# Altium integrated library jst.IntLib: 38 symbols
Pins are listed as number, name and electrical type; pins without a type are passive.

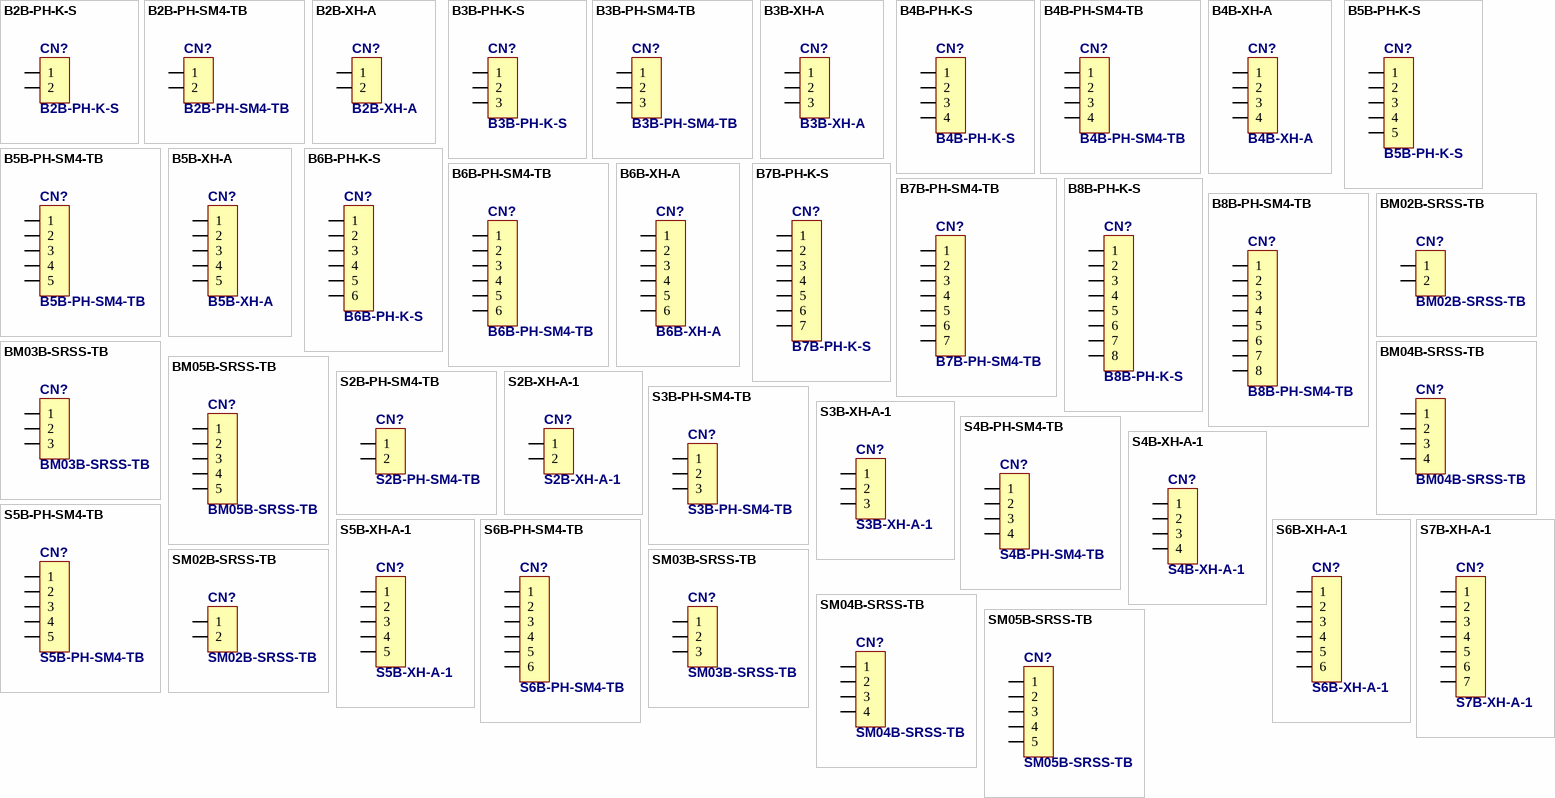
[diagram p0: symbols B2B-PH-K-S to SM05B-SRSS-TB]

## B2B-PH-K-S
designator CN?
footprint B2B-PH-K-S
pins: 1, 2

## B2B-PH-SM4-TB
designator CN?
footprint B2B-PH-SM4-TB
pins: 1, 2

## B2B-XH-A
designator CN?
Top Entry, 2.5mm, 3A, 250V AC/DC, Disconnectable Crimp Style Connectors
footprint B2B-XH-A
pins: 1, 2

## B3B-PH-K-S
designator CN?
footprint B3B-PH-K-S
pins: 1, 2, 3

## B3B-PH-SM4-TB
designator CN?
footprint B3B-PH-SM4-TB
pins: 1, 2, 3

## B3B-XH-A
designator CN?
Top Entry, 2.5mm, 3A, 250V AC/DC, Disconnectable Crimp Style Connectors
footprint B3B-XH-A
pins: 1, 2, 3

## B4B-PH-K-S
designator CN?
footprint B4B-PH-K-S
pins: 1, 2, 3, 4

## B4B-PH-SM4-TB
designator CN?
footprint B4B-PH-SM4-TB
pins: 1, 2, 3, 4

## B4B-XH-A
designator CN?
Top Entry, 2.5mm, 3A, 250V AC/DC, Disconnectable Crimp Style Connectors
footprint B4B-XH-A
pins: 1, 2, 3, 4

## B5B-PH-K-S
designator CN?
footprint B5B-PH-K-S
pins: 1, 2, 3, 4, 5

## B5B-PH-SM4-TB
designator CN?
footprint B5B-PH-SM4-TB
pins: 1, 2, 3, 4, 5

## B5B-XH-A
designator CN?
Top Entry, 2.5mm, 3A, 250V AC/DC, Disconnectable Crimp Style Connectors
footprint B5B-XH-A
pins: 1, 2, 3, 4, 5

## B6B-PH-K-S
designator CN?
footprint B6B-PH-K-S
pins: 1, 2, 3, 4, 5, 6

## B6B-PH-SM4-TB
designator CN?
footprint B6B-PH-SM4-TB
pins: 1, 2, 3, 4, 5, 6

## B6B-XH-A
designator CN?
Top Entry, 2.5mm, 3A, 250V AC/DC, Disconnectable Crimp Style Connectors
footprint B6B-XH-A
pins: 1, 2, 3, 4, 5, 6

## B7B-PH-K-S
designator CN?
footprint B7B-PH-K-S
pins: 1, 2, 3, 4, 5, 6, 7

## B7B-PH-SM4-TB
designator CN?
footprint B7B-PH-SM4-TB
pins: 1, 2, 3, 4, 5, 6, 7

## B8B-PH-K-S
designator CN?
footprint B8B-PH-K-S
pins: 1, 2, 3, 4, 5, 6, 7, 8

## B8B-PH-SM4-TB
designator CN?
footprint B8B-PH-SM4-TB
pins: 1, 2, 3, 4, 5, 6, 7, 8

## BM02B-SRSS-TB
designator CN?
footprint BM02B-SRSS-TB
pins: 1, 2

## BM03B-SRSS-TB
designator CN?
footprint BM03B-SRSS-TB
pins: 1, 2, 3

## BM04B-SRSS-TB
designator CN?
footprint BM04B-SRSS-TB
pins: 1, 2, 3, 4

## BM05B-SRSS-TB
designator CN?
footprint BM05B-SRSS-TB
pins: 1, 2, 3, 4, 5

## S2B-PH-SM4-TB
designator CN?
footprint S2B-PH-SM4-TB
pins: 1, 2

## S2B-XH-A-1
designator CN?
Side Entry, 2.5mm, 3A, 250V AC/DC, Disconnectable Crimp Style Connectors
footprint S2B-XH-A-1
pins: 1, 2

## S3B-PH-SM4-TB
designator CN?
footprint S3B-PH-SM4-TB
pins: 1, 2, 3

## S3B-XH-A-1
designator CN?
Side Entry, 2.5mm, 3A, 250V AC/DC, Disconnectable Crimp Style Connectors
footprint S3B-XH-A-1
footprint S3B-XH-A
pins: 1, 2, 3

## S4B-PH-SM4-TB
designator CN?
footprint S4B-PH-SM4-TB
pins: 1, 2, 3, 4

## S4B-XH-A-1
designator CN?
Side Entry, 2.5mm, 3A, 250V AC/DC, Disconnectable Crimp Style Connectors
footprint S4B-XH-A-1
pins: 1, 2, 3, 4

## S5B-PH-SM4-TB
designator CN?
footprint S5B-PH-SM4-TB
pins: 1, 2, 3, 4, 5

## S5B-XH-A-1
designator CN?
Side Entry, 2.5mm, 3A, 250V AC/DC, Disconnectable Crimp Style Connectors
footprint S5B-XH-A-1
pins: 1, 2, 3, 4, 5

## S6B-PH-SM4-TB
designator CN?
footprint S6B-PH-SM4-TB
pins: 1, 2, 3, 4, 5, 6

## S6B-XH-A-1
designator CN?
Side Entry, 2.5mm, 3A, 250V AC/DC, Disconnectable Crimp Style Connectors
footprint S6B-XH-A-1
pins: 1, 2, 3, 4, 5, 6

## S7B-XH-A-1
designator CN?
Side Entry, 2.5mm, 3A, 250V AC/DC, Disconnectable Crimp Style Connectors
footprint S7B-XH-A-1
pins: 1, 2, 3, 4, 5, 6, 7

## SM02B-SRSS-TB
designator CN?
footprint SM02B-SRSS-TB
pins: 1, 2

## SM03B-SRSS-TB
designator CN?
footprint SM03B-SRSS-TB
pins: 1, 2, 3

## SM04B-SRSS-TB
designator CN?
footprint SM04B-SRSS-TB
pins: 1, 2, 3, 4

## SM05B-SRSS-TB
designator CN?
footprint SM05B-SRSS-TB
pins: 1, 2, 3, 4, 5